# Altium schematic symbol library UOMP_resistors.SchLib: 87 symbols
Pins are listed as number, name and electrical type; pins without a type are passive.

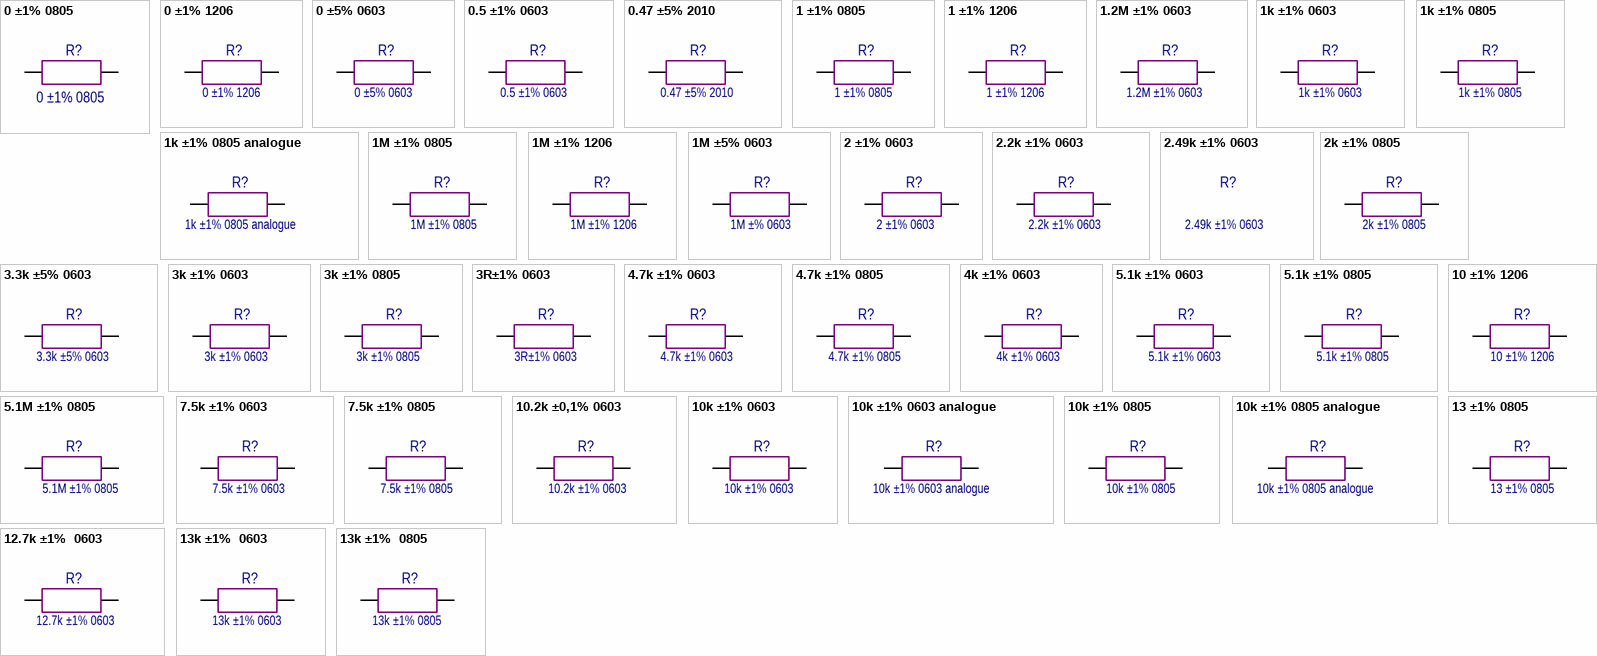
[diagram p0: symbols 0 ±1% 0805 to 13k ±1%  0805]

## 0 ±1% 0805
designator R?
Code: 6094342239; Name: Резистор 0R ±1% 0805
footprint RES: SMD 0805 MD IPC 782
pins: 1, 2

## 0 ±1% 1206
designator R?
Code: 6094340011; Name: Резистор 0R±1% 1206
footprint RES: SMD 1206
pins: 1, 2

## 0 ±5% 0603
designator R?
Code: 6020004221; Name: Резистор RC0603JR-070RL, Yageo
footprint RES: SMD 0603 MD IPC 782
pins: 1, 2

## 0.5 ±1% 0603
designator R?
Name: Резистор 0.5 ±1% 0603
footprint RES: SMD 0603 MD IPC 782
pins: 1, 2

## 0.47 ±5% 2010
designator R?
Code: 6094339521; Name: Резистор 0,47R±5% 2010
footprint RES: SMD 2010 MD IPC 782
pins: 1, 2

## 1 ±1% 0805
designator R?
footprint RES: SMD 0805 MD IPC 782
pins: 1, 2

## 1 ±1% 1206
designator R?
Code: 6094340141; Name: Резистор 1R±1%  1206
footprint RES: SMD 1206
pins: 1, 2

## 1.2M ±1% 0603
designator R?
Code: 6069194591; Name: Резистор 1,2M±1% ТК50 0603
footprint RES: SMD 0603 MD IPC 782
pins: 1, 2

## 1k ±1% 0603
designator R?
Code: 6069174188; Name: Резистор 1k ±1% 0603
footprint RES: SMD 0603 MD IPC 782
pins: 1, 2

## 1k ±1% 0805
designator R?
Code: 6027158691; Name: Резистор RC0805FR-071KL, Yageo
footprint RES: SMD 0805 MD IPC 782
pins: 1, 2

## 1k ±1% 0805 analogue
designator R?
Code: 6094352241; Name: Резистор 1k±1%  0805
footprint RES: SMD 0805 MD IPC 782
pins: 1, 2

## 1M ±1% 0805
designator R?
Name: Резистор RC0805FR-071KL, Yageo
footprint RES: SMD 0805 MD IPC 782
pins: 1, 2

## 1M ±1% 1206
designator R?
footprint RES: SMD 1206
pins: 1, 2

## 1M ±5% 0603
designator R?, comment 1M ±% 0603
RC0603JR-071ML; Code: 6020003291; Name: Резистор RC0603JR-071ML
footprint RES: SMD 0603 MD IPC 782
pins: 1, 2

## 2 ±1% 0603
designator R?
Code: 6069180891; Name: Резистор 2,2k ±1% 0603
footprint RES: SMD 0603 MD IPC 782
pins: 1, 2

## 2.2k ±1% 0603
designator R?
Code: 6069180891; Name: Резистор 2,2k ±1% 0603
footprint RES: SMD 0603 MD IPC 782
pins: 1, 2

## 2.49k ±1% 0603
designator R?
Code: 6069174222; Name: Резистор 2,49К ±1% 0603
footprint RES: SMD 0603 MD IPC 782

## 2k ±1% 0805
designator R?
Code: 6094352561; Name: Резистор 2k±1%  0805
footprint RES: SMD 0805 MD IPC 782
pins: 1, 2

## 3.3k ±5% 0603
designator R?
footprint RES: SMD 0603 MD IPC 782
pins: 1, 2

## 3k ±1% 0603
designator R?
Code: 6094357331; Name: Резистор 3К ±1% 0603
footprint RES: SMD 0603 MD IPC 782
pins: 1, 2

## 3k ±1% 0805
designator R?
Code: 6094357331; Name: Резистор 3К ±1% 0805
footprint RES: SMD 0805 MD IPC 782
pins: 1, 2

## 3R±1% 0603
designator R?
footprint RES: SMD 0603 MD IPC 782
pins: 1, 2

## 4.7k ±1% 0603
designator R?
Code: 6069174451; Name: Резистор 4.7k ±1% 0603
footprint RES: SMD 0603 MD IPC 782
pins: 1, 2

## 4.7k ±1% 0805
designator R?
Code: 6027158731; Name: Резистор RC0805FR-074K7L, Yageo
footprint RES: SMD 0805 MD IPC 782
pins: 1, 2

## 4k ±1% 0603
designator R?
Code: 6027162081; Name: Резистор AC0603FR-074K02L, Yageo
footprint RES: SMD 0603 MD IPC 782
pins: 1, 2

## 5.1k ±1% 0603
designator R?
Code: 6060001311; Name: Резистор 5.1k ±1% 0603
footprint CAP: SMD 0603 MD IPC 782
pins: 1, 2

## 5.1k ±1% 0805
designator R?
Code: 6094365187; Name: Резистор 5,1k±1% 0805
footprint RES: SMD 0805 MD IPC 782
pins: 1, 2

## 5.1M ±1% 0805
designator R?
Code: 6090000005; Name: Резистор 5,1M±1% 0805
footprint RES: SMD 0805 MD IPC 782
pins: 1, 2

## 7.5k ±1% 0603
designator R?
Code: 6069181041; Name: Резистор 7,5k±1% 0805
footprint RES: SMD 0603 MD IPC 782
pins: 1, 2

## 7.5k ±1% 0805
designator R?
Code: 6094357441; Name: Резистор 7,5k±1% 0805
footprint RES: SMD 0805 MD IPC 782
pins: 1, 2

## 10 ±1% 1206
designator R?
Code: 6094341211; Name: Резистор 10R±1%  1206
footprint RES: SMD 1206
pins: 1, 2

## 10.2k ±0,1% 0603
designator R?, comment 10.2k ±1% 0603
Code: 6069447141; Name: Резистор 10,2К ±0,1% 0603
footprint RES: SMD 0603 MD IPC 782
pins: 1, 2

## 10k ±1% 0603
designator R?
Code: 6069191961; Name: Резистор 10K+-1% TK50 0603
footprint RES: SMD 0603 MD IPC 782
pins: 1, 2

## 10k ±1% 0603 analogue
designator R?
Code: 6069181071; Name: Резистор 10K±1% 0603
footprint RES: SMD 0603 MD IPC 782
pins: 1, 2

## 10k ±1% 0805
designator R?
Code: 6020003061; Name: Резистор RC0805JR-0710KL
footprint RES: SMD 0805 MD IPC 782
pins: 1, 2

## 10k ±1% 0805 analogue
designator R?
Code: 6094357511; Name: Резистор 10K±1% 0805
footprint RES: SMD 0805 MD IPC 782
pins: 1, 2

## 12.7k ±1%  0603
designator R?, comment 12.7k ±1% 0603
Code: 6060001721; Name: Резистор 12,7К ± 1% 0603
footprint RES: SMD 0603 MD IPC 782
pins: 1, 2

## 13 ±1% 0805
designator R?
Code: 6094350231; Name: Резистор 13R±1% 0805
footprint RES: SMD 0805 MD IPC 782
pins: 1, 2

## 13k ±1%  0603
designator R?, comment 13k ±1% 0603
Code: 6027162071; Name: Резистор RC0603FR-0713KL, Yageo
footprint RES: SMD 0603 MD IPC 782
pins: 1, 2

## 13k ±1%  0805
designator R?, comment 13k ±1% 0805
Code: 6027162061; Name: Резистор RT0805FRE-0713KL, Yageo
footprint RES: SMD 0805 MD IPC 782
pins: 1, 2

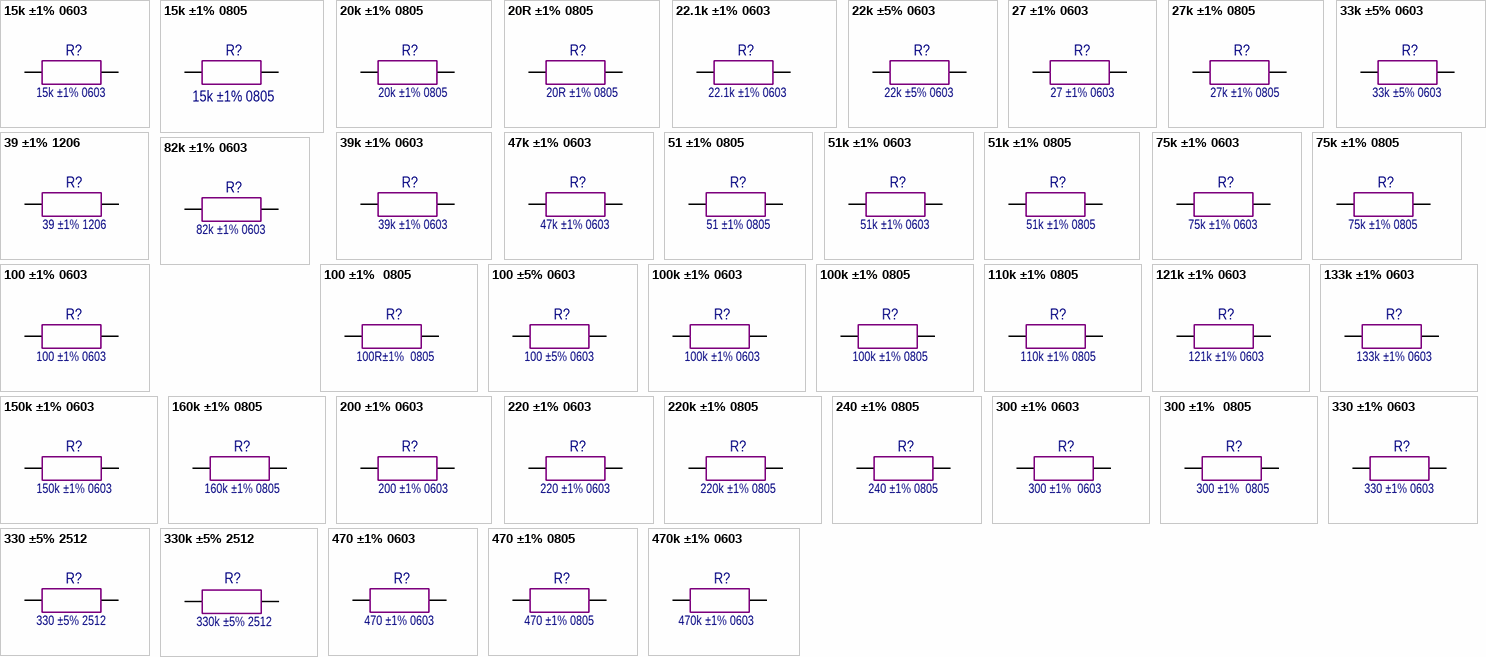
[diagram p1: symbols 15k ±1% 0603 to 470k ±1% 0603]

## 15k ±1% 0603
designator R?
Name: Резистор 15К±1% 0603; Code: 6069181121
footprint RES: SMD 0603 MD IPC 782
pins: 1, 2

## 15k ±1% 0805
designator R?
Code: 6027162091; Name: Резистор RT0805FRE1015KL, Yageo
footprint RES: SMD 0805 MD IPC 782
pins: 1, 2

## 20k ±1% 0805
designator R?
Code: 6094357581; Name: Резистор 20K±1% 0805
footprint RES: SMD 0805 MD IPC 782
pins: 1, 2

## 20R ±1% 0805
designator R?
Code: 6094357581; Name: 20R ±1% 0805
footprint RES: SMD 0805 MD IPC 782
pins: 1, 2

## 22.1k ±1% 0603
designator R?
Code: 6060002391; Name: Резистор 22,1К±1% 0603
footprint RES: SMD 0603 MD IPC 782
pins: 1, 2

## 22k ±5% 0603
designator R?
Code: 6069178361; Name: Резистор 22k ±5% 0603
footprint RES: SMD 0603 MD IPC 782
pins: 1, 2

## 27 ±1% 0603
designator R?
Code: 6069180381; Name: Резистор 27R±1% 0603
footprint IND: SMD 0603 BLM18HE601SN1D
pins: 1, 2

## 27k ±1% 0805
designator R?
Name: Резистор 27k±1% 0805
footprint RES: SMD 0805 MD IPC 782
pins: 1, 2

## 33k ±5% 0603
designator R?
Code: 6069179211; Name: Резистор 33k ±5% 0603
footprint RES: SMD 0603 MD IPC 782
pins: 1, 2

## 39 ±1% 1206
designator R?
Code: 6060000731; Name: Резистор 39R±1%  1206
footprint RES: SMD 1206
pins: 1, 2

## 39k ±1% 0603
designator R?
Code: 6069180431; Name: Резистор 39K ±1% 0603
footprint RES: SMD 0603 MD IPC 782
pins: 1, 2

## 47k ±1% 0603
designator R?
Code: 6069181251; Name: Резистор 47К±1% 0603
footprint RES: SMD 0603 MD IPC 782
pins: 1, 2

## 51 ±1% 0805
designator R?
Code: 6094354057; Name: Резистор 51K±1% 0805
footprint RES: SMD 0805 MD IPC 782
pins: 1, 2

## 51k ±1% 0603
designator R?
Code: 6069181261; Name: Резистор 51K±1% 0603
footprint RES: SMD 0603 MD IPC 782
pins: 1, 2

## 51k ±1% 0805
designator R?
Code: 6094354057; Name: Резистор 51K±1% 0805
footprint RES: SMD 0805 MD IPC 782
pins: 1, 2

## 75k ±1% 0603
designator R?
Code: 6069181311; Name: Резистор 75К±1% 0603
footprint RES: SMD 0603 MD IPC 782
pins: 1, 2

## 75k ±1% 0805
designator R?
Name: Резистор 75К±1% 0805
footprint RES: SMD 0805 MD IPC 782
pins: 1, 2

## 82k ±1% 0603
designator R?
Code: 6060002261; Name: Резистор 82K±1% 0603
footprint RES: SMD 0603 MD IPC 782
pins: 1, 2

## 100 ±1% 0603
designator R?
Code: 6069180541; Name: Резистор 100R±1%  0603
footprint RES: SMD 0603 MD IPC 782
pins: 1, 2

## 100 ±1%  0805
designator R?, comment 100R±1%  0805
Code: 6094351171; Name: Резистор 100R±1%  0805
footprint RES: SMD 0805 MD IPC 782
pins: 1, 2

## 100 ±5% 0603
designator R?
Code: 6027158461; Name: Резистор RC0603JR-07100RL, Yageo
footprint RES: SMD 0603 MD IPC 782
pins: 1, 2

## 100k ±1% 0603
designator R?
Code: 6069193231; Name: Резистор 100К ±1% ТК50 0603
footprint RES: SMD 0603 MD IPC 782
pins: 1, 2

## 100k ±1% 0805
designator R?
Code: 6094357811; Name: Резистор 100K±1% 0805
footprint RES: SMD 0805 MD IPC 782
pins: 1, 2

## 110k ±1% 0805
designator R?
Code: 6094356221; Name: Резистор 110K±1% 0805
footprint RES: SMD 0805 MD IPC 782
pins: 1, 2

## 121k ±1% 0603
designator R?
Code: 6060001691; Name: Резистор 121K±1% 0603
footprint RES: SMD 0603 MD IPC 782
pins: 1, 2

## 133k ±1% 0603
designator R?
Code: 6027155891; Name: Резистор CRCW0603133KFKEA, Vishay
footprint RES: SMD 0603 MD IPC 782
pins: 1, 2

## 150k ±1% 0603
designator R?
Code: 6069181381; Name: Резистор 150К ±1% 0603
footprint RES: SMD 0603 MD IPC 782
pins: 1, 2

## 160k ±1% 0805
designator R?
Code: 6094356491; Name: Резистор 160k ±1% 0805
footprint RES: SMD 0805 MD IPC 782
pins: 1, 2

## 200 ±1% 0603
designator R?
Code: 6069180621; Name: Резистор 200R±1% 0603
footprint RES: SMD 0603 MD IPC 782
pins: 1, 2

## 220 ±1% 0603
designator R?
Code: 6027160171; Name: Резистор RC0603FR-07220RL
footprint RES: SMD 0603 MD IPC 782
pins: 1, 2

## 220k ±1% 0805
designator R?
Code: 6027158851; Name: Резистор RC0805FR-07220KL, Yageo
footprint RES: SMD 0805 MD IPC 782
pins: 1, 2

## 240 ±1% 0805
designator R?
Code: 6094351582; Name: Резистор 240R±1% 0805
footprint RES: SMD 0805 MD IPC 782
pins: 1, 2

## 300 ±1% 0603
designator R?, comment 300 ±1%  0603
Code: 6069180661; Name: Резистор 300R±1% 0603
footprint RES: SMD 0603 MD IPC 782
pins: 1, 2

## 300 ±1%  0805
designator R?
Code: 6094357025; Name: Резистор 300R±1%  0805
footprint RES: SMD 0805 MD IPC 782
pins: 1, 2

## 330 ±1% 0603
designator R?
Code: 6069180671; Name: Резистор 330R ±1% 0603
footprint RES: SMD 0603 MD IPC 782
pins: 1, 2

## 330 ±5% 2512
designator R?
Code: 6020004271; Name: Резистор RC2512JK-07330RL, Yageo
footprint RES: SMD 2512 MD IPC 782
pins: 1, 2

## 330k ±5% 2512
designator R?
Code: 6090001031; Name: Резистор RC2512JK-07330KL, Yageo
footprint RES: SMD 2512 MD IPC 782
pins: 1, 2

## 470 ±1% 0603
designator R?
Code: 6069180721; Name: Резистор 470R ±1% 0603
footprint RES: SMD 0603 MD IPC 782
pins: 1, 2

## 470 ±1% 0805
designator R?
Code: 6094351886; Name: Резистор 470R±1% 0805
footprint RES: SMD 0805 MD IPC 782
pins: 1, 2

## 470k ±1% 0603
designator R?
Code: 6099179621; Name: Резистор 470K±1% 0603
footprint CAP: SMD 0603 MD IPC 782
pins: 1, 2

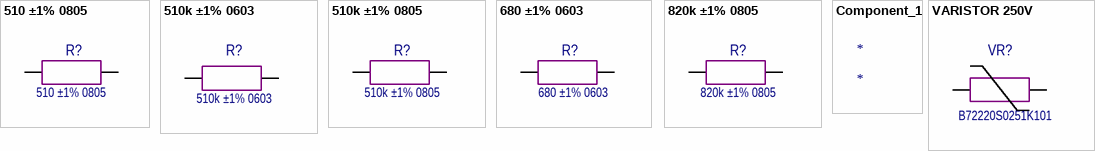
[diagram p2: symbols 510 ±1% 0805 to VARISTOR 250V]

## 510 ±1% 0805
designator R?
Code: 6069137191; Name: Резистор 510R±1%  0805
footprint RES: SMD 0805 MD IPC 782
pins: 1, 2

## 510k ±1% 0603
designator R?
Code: 6069181531; Name: Резистор 510К±1% 0603
footprint RES: SMD 0603 MD IPC 782
pins: 1, 2

## 510k ±1% 0805
designator R?
Code: 6094357031; Name: Резистор 510K±1% 0805
footprint RES: SMD 0805 MD IPC 782
pins: 1, 2

## 680 ±1% 0603
designator R?
Code: 6069180761; Name: Резистор 680R ±1% 0603
footprint RES: SMD 0603 MD IPC 782
pins: 1, 2

## 820k ±1% 0805
designator R?
Code: 6019041741; Name: Резистор RC0805FR-07820KL, Yageo
footprint RES: SMD 0805 MD IPC 782
pins: 1, 2

## Component_1
designator *

## VARISTOR 250V
designator VR?, comment B72220S0251K101
Code: 6190000421; Name: Варистор B72220S0251K101, Epcos
footprint RES: S20K250
pins: 1, 2